# EAGLE library part ESP32_LOLIN_WEMOS (library ESP32_LOLIN)
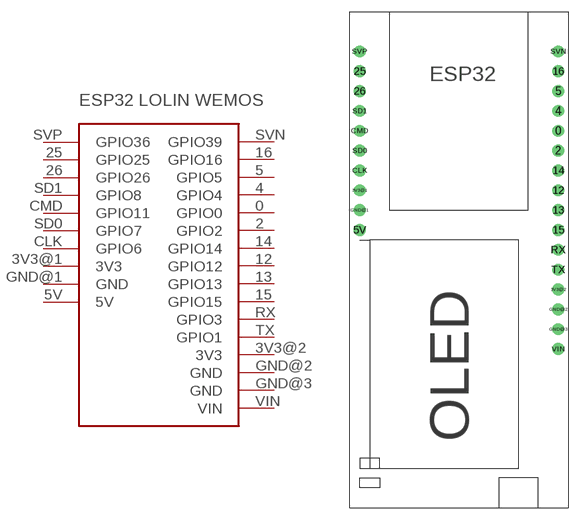
[diagram p0: symbol with the pads of ESP32_LOLIN_WEMOS; footprint ESP32_LOLIN_WEMOS]

Designator prefix -

## ESP32_LOLIN_WEMOS  [ESP32_LOLIN_WEMOS]
0  GPIO0
2  GPIO2
3V3@1  3V3
3V3@2  3V3  pwr
4  GPIO4
5  GPIO5
5V  5V  pwr
12  GPIO12
13  GPIO13
14  GPIO14
15  GPIO15
16  GPIO16
25  GPIO25
26  GPIO26
CLK  GPIO6
CMD  GPIO11
GND@1  GND  pwr
GND@2  GND  pwr
GND@3  GND  pwr
RX  GPIO3
SD0  GPIO7
SD1  GPIO8
SVN  GPIO39
SVP  GPIO36
TX  GPIO1
VIN  VIN  pwr

## Footprint ESP32_LOLIN_WEMOS (pad centres in mm)
drill 1: 0 26.67,48.26; 2 26.67,45.72; 3V3@1 1.27,40.64; 3V3@2 26.67,27.94; 4 26.67,50.8; 5 26.67,53.34; 5V 1.27,35.56; 12 26.67,40.64; 13 26.67,38.1; 14 26.67,43.18; 15 26.67,35.56; 16 26.67,55.88; 25 1.27,55.88; 26 1.27,53.34; CLK 1.27,43.18; CMD 1.27,48.26; GND@1 1.27,38.1; GND@2 26.67,25.4; GND@3 26.67,22.86; RX 26.67,33.02; SD0 1.27,45.72; SD1 1.27,50.8; SVN 26.67,58.42; SVP 1.27,58.42; TX 26.67,30.48; VIN 26.67,20.32